# EAGLE library part MAG3110 (library hybridpi-sensor)
Three-Axis, Digital MAG3110 Magnetometer Datasheet: MAG3110 <http://cache.freescale.com/files/sensors/doc/data_sheet/MAG3110.pdf>
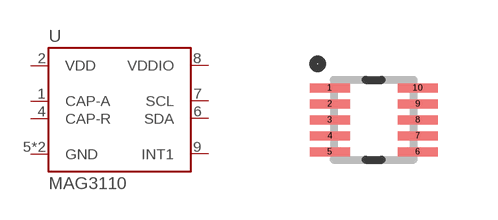
[diagram p0: symbol with the pads of DFN-10-2X2; footprint DFN-10-2X2]

Designator prefix U

## MAG3110 (EAGLEUP: DFN-10-2x2; VENDOR: DIGI-KEY; VENDOR_PN: MAG3110FCR1CT-ND)  [DFN-10-2X2]
1  CAP-A
2  VDD
4  CAP-R
5  GND
6  SDA
7  SCL
8  VDDIO
9  INT1
10  GND

## Footprint DFN-10-2X2 (pad centres in mm)
smd 1 x 0.225: 1 -1.1,0.8; 2 -1.1,0.4; 3 -1.1,0; 4 -1.1,-0.4; 5 -1.1,-0.8; 6 1.1,-0.8; 7 1.1,-0.4; 8 1.1,0; 9 1.1,0.4; 10 1.1,0.8